# Altium schematic symbol library Connectors.SchLib: 110 symbols
Pins are listed as number, name and electrical type; pins without a type are passive.

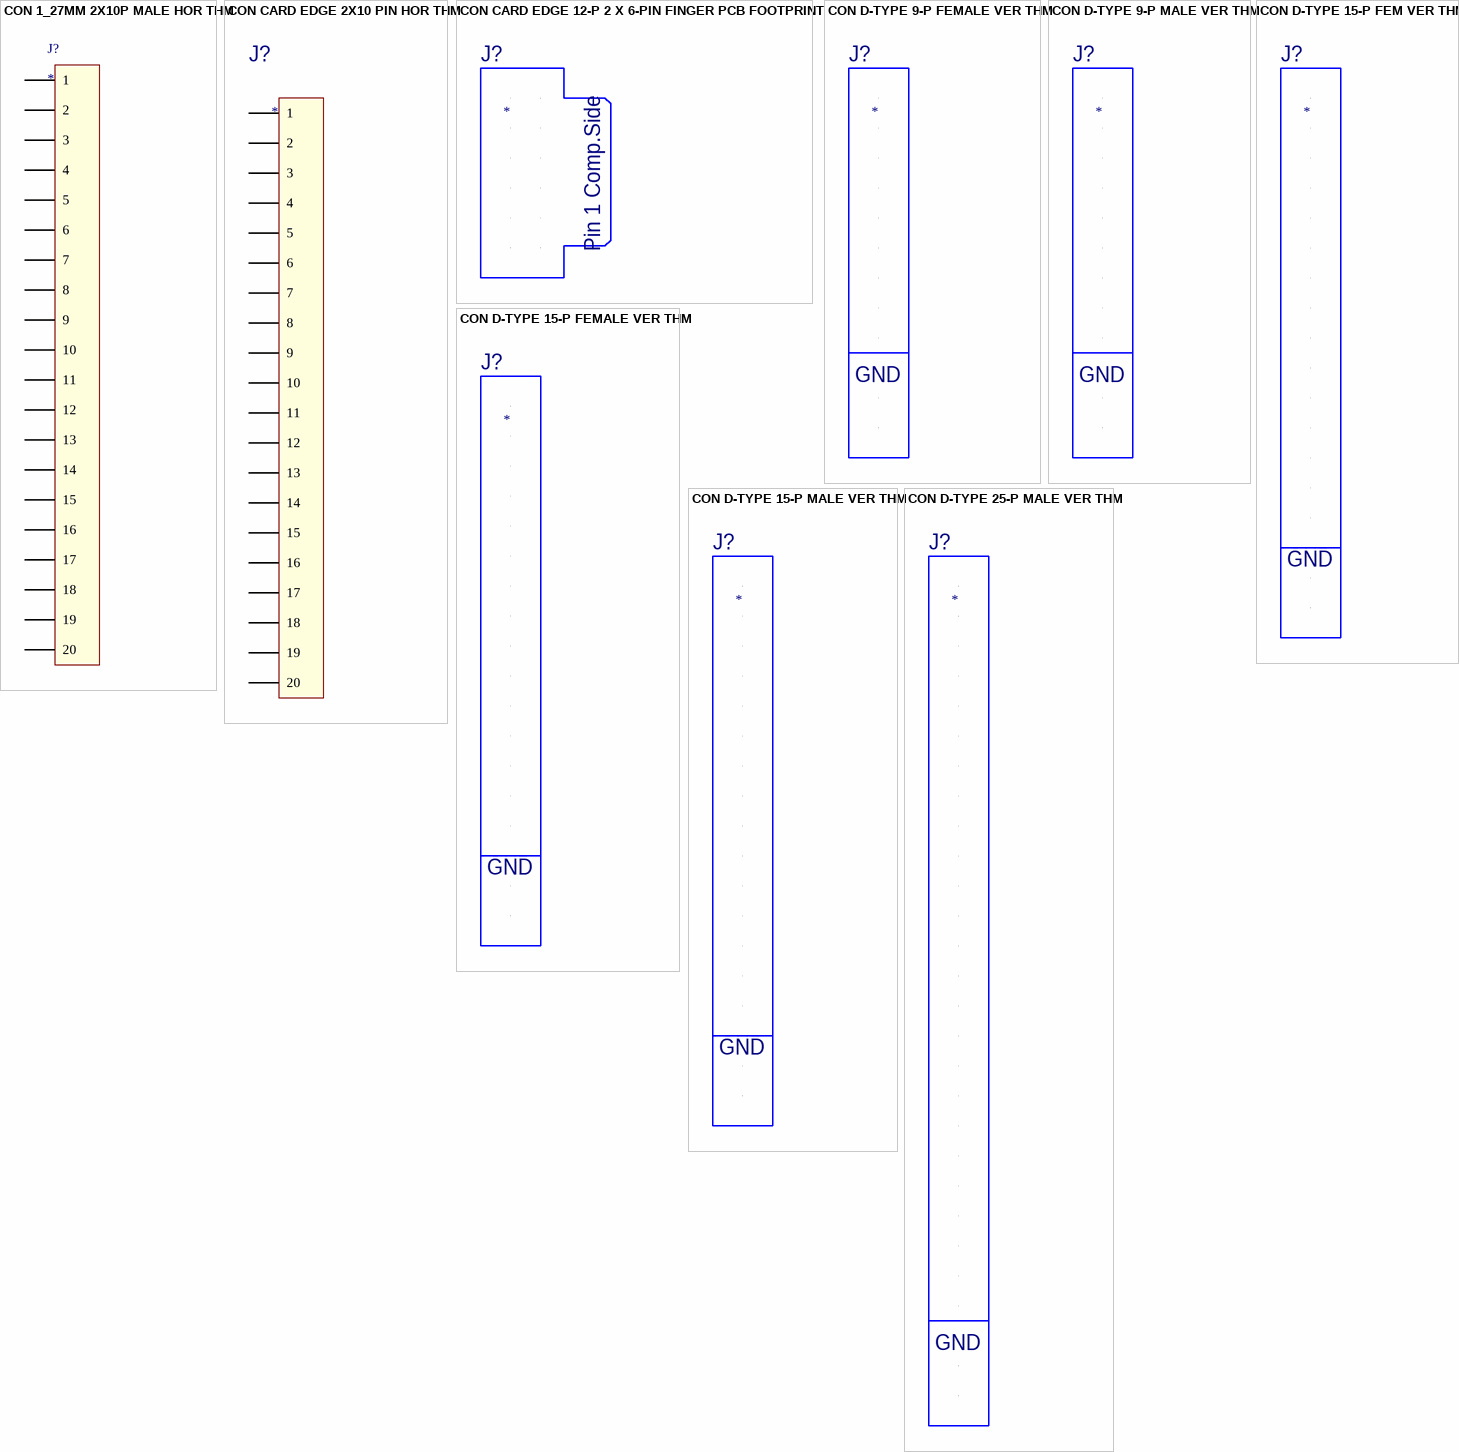
[diagram p0: symbols CON 1_27MM 2X10P MALE HOR THM to CON D-TYPE 25-P MALE VER THM]

## CON 1_27MM 2X10P MALE HOR THM
designator J?
=Description
pins: 1, 2, 3, 4, 5, 6, 7, 8, 9, 10, 11, 12, 13, 14, 15, 16, 17, 18, 19, 20

## CON CARD EDGE 2X10 PIN HOR THM
designator J?
=Description
pins: 1, 2, 3, 4, 5, 6, 7, 8, 9, 10, 11, 12, 13, 14, 15, 16, 17, 18, 19, 20

## CON CARD EDGE 12-P 2 X 6-PIN FINGER PCB FOOTPRINT
designator J?
=Description
pins: 1, 2, 3, 4, 5, 6, 7, 8, 9, 10, 11, 12
text: Pin 1 Comp.Side

## CON D-TYPE 9-P FEMALE VER THM
designator J?
=Description
pins: 1, 2, 3, 4, 5, 6, 7, 8, 9, 10, 11
text: GND

## CON D-TYPE 9-P MALE VER THM
designator J?
=Description
pins: 1, 2, 3, 4, 5, 6, 7, 8, 9, 10, 11
text: GND

## CON D-TYPE 15-P FEM VER THM
designator J?
=Description
pins: 1, 2, 3, 4, 5, 6, 7, 8, 9, 10, 11, 12, 13, 14, 15, 16, 17
text: GND

## CON D-TYPE 15-P FEMALE VER THM
designator J?
=Description
pins: 1, 2, 3, 4, 5, 6, 7, 8, 9, 10, 11, 12, 13, 14, 15, 16, 17
text: GND

## CON D-TYPE 15-P MALE VER THM
designator J?
=Description
pins: 1, 2, 3, 4, 5, 6, 7, 8, 9, 10, 11, 12, 13, 14, 15, 16, 17
text: GND

## CON D-TYPE 25-P MALE VER THM
designator J?
=Description
pins: 1, 2, 3, 4, 5, 6, 7, 8, 9, 10, 11, 12, 13, 14, 15, 16, 17, 18, 19, 20, 21, 22, 23, 24, 25, 26, 27
text: GND

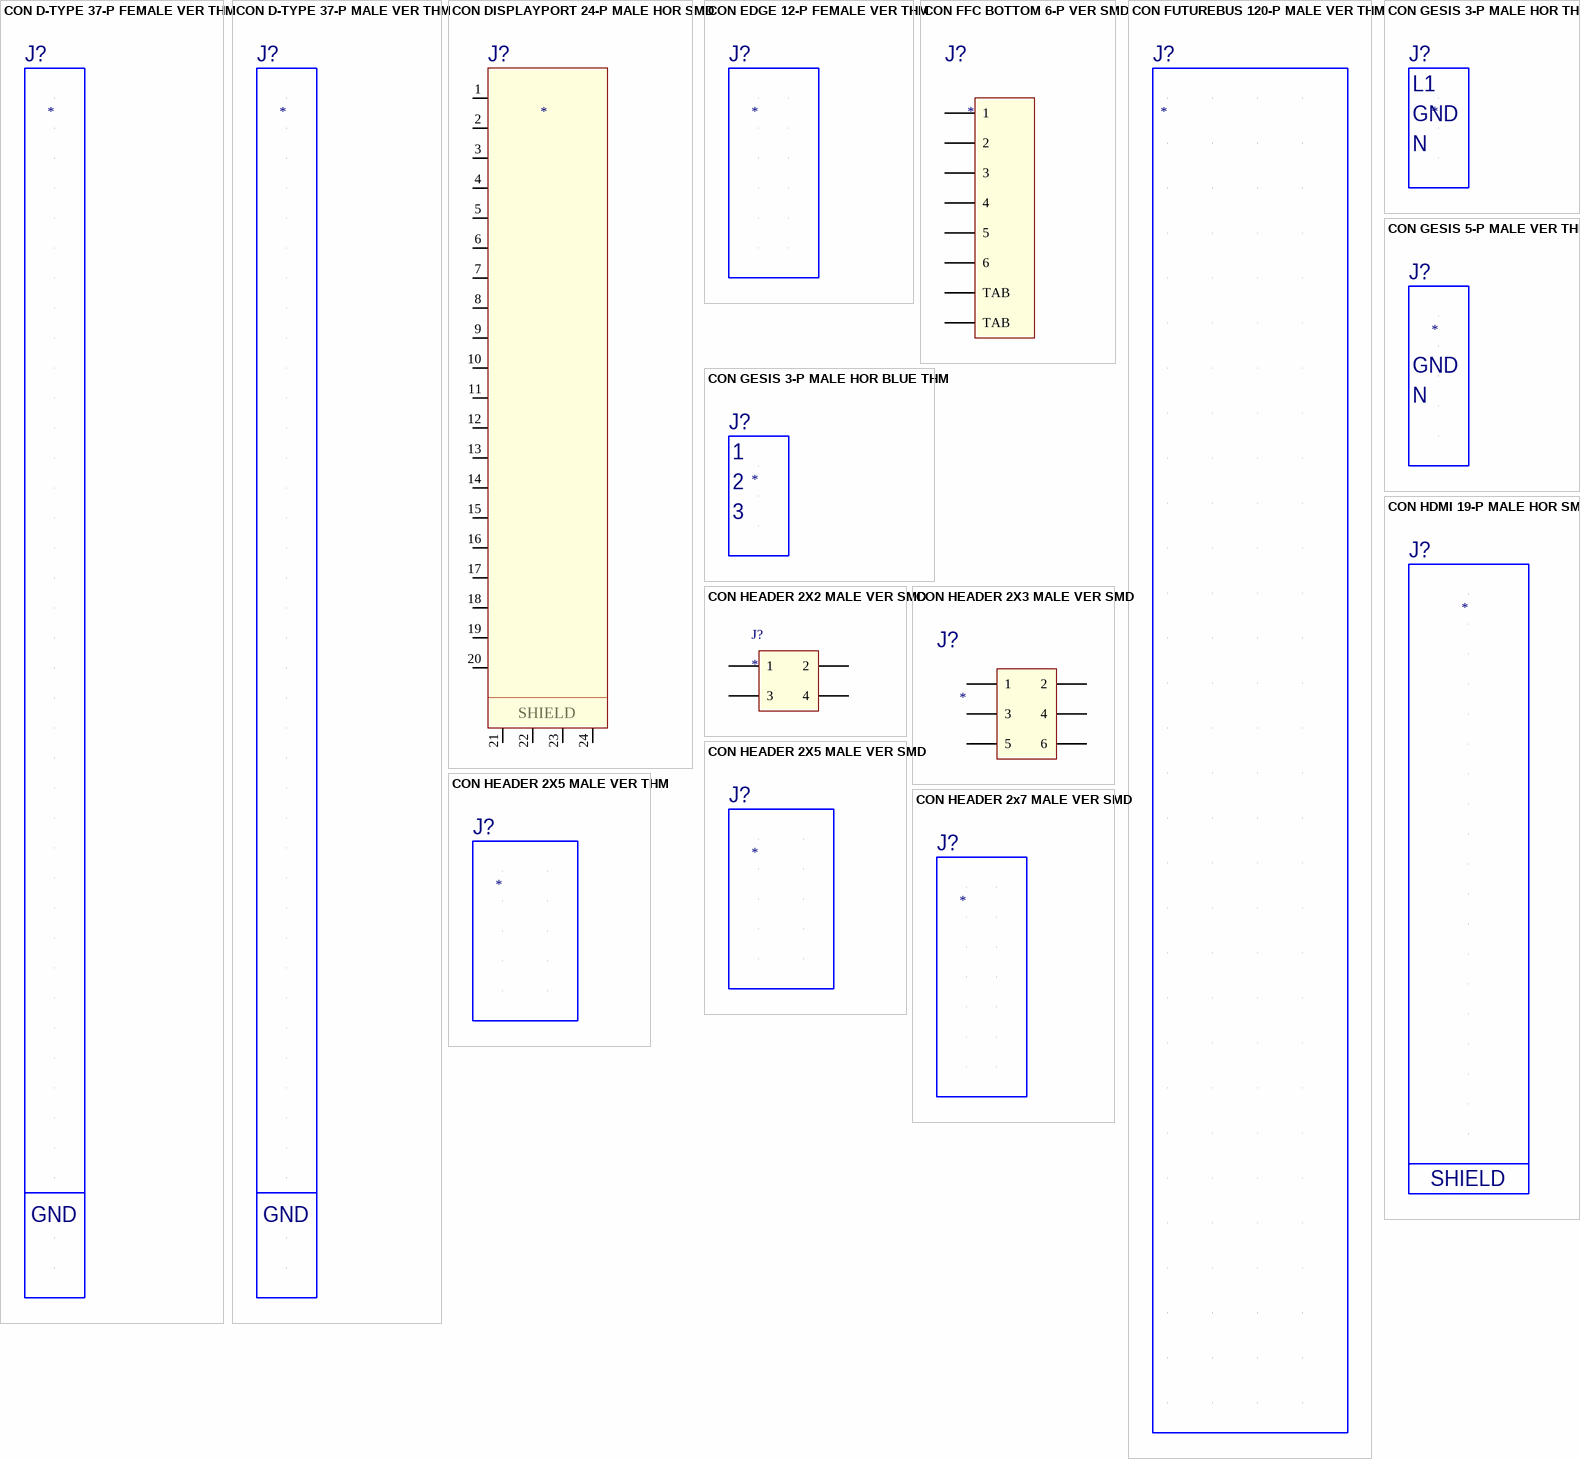
[diagram p1: symbols CON D-TYPE 37-P FEMALE VER THM to CON HEADER 2x7 MALE VER SMD]

## CON D-TYPE 37-P FEMALE VER THM
designator J?
=Description
pins: 1, 2, 3, 4, 5, 6, 7, 8, 9, 10, 11, 12, 13, 14, 15, 16, 17, 18, 19, 20, 21, 22, 23, 24, 25, 26, 27, 28, 29, 30, 31, 32, 33, 34, 35, 36, 37, 38, 39
text: GND

## CON D-TYPE 37-P MALE VER THM
designator J?
=Description
pins: 1, 2, 3, 4, 5, 6, 7, 8, 9, 10, 11, 12, 13, 14, 15, 16, 17, 18, 19, 20, 21, 22, 23, 24, 25, 26, 27, 28, 29, 30, 31, 32, 33, 34, 35, 36, 37, 38, 39
text: GND

## CON DISPLAYPORT 24-P MALE HOR SMD
designator J?
=Description
pins: 1, 2, 3, 4, 5, 6, 7, 8, 9, 10, 11, 12, 13, 14, 15, 16, 17, 18, 19, 20, 21, 22, 23, 24
text: SHIELD

## CON EDGE 12-P FEMALE VER THM
designator J?
=Description
pins: 1, 2, 3, 4, 5, 6, 7, 8, 9, 10, 11, 12

## CON FFC BOTTOM 6-P VER SMD
designator J?
=Description
pins: 1, 2, 3, 4, 5, 6, 7 TAB, 8 TAB

## CON FUTUREBUS 120-P MALE VER THM
designator J?
=Description
pins: A1, A2, A3, A4, A5, A6, A7, A8, A9, A10, A11, A12, A13, A14, A15, A16, A17, A18, A19, A20, A21, A22, A23, A24, A25, A26, A27, A28, A29, A30, B1, B2, B3, B4, B5, B6, B7, B8, B9, B10, B11, B12, B13, B14, B15, B16, B17, B18, B19, B20, B21, B22, B23, B24, B25, B26, B27, B28, B29, B30, C1, C2, C3, C4, C5, C6, C7, C8, C9, C10, C11, C12, C13, C14, C15, C16, C17, C18, C19, C20, C21, C22, C23, C24, C25, C26, C27, C28, C29, C30, D1, D2, D3, D4, D5, D6, D7, D8, D9, D10, D11, D12, D13, D14, D15, D16, D17, D18, D19, D20, D21, D22, D23, D24, D25, D26, D27, D28, D29, D30

## CON GESIS 3-P MALE HOR BLUE THM
designator J?
=Description
pins: 1, 2, 3

## CON GESIS 3-P MALE HOR THM
designator J?
=Description
pins: 1, 2, 3
text: L1; GND; N

## CON GESIS 5-P MALE VER THM
designator J?
=Description
pins: 1, 2, 3, 4, 5
text: GND; N

## CON HDMI 19-P MALE HOR SMD
designator J?
=Description
pins: 1, 2, 3, 4, 5, 6, 7, 8, 9, 10, 11, 12, 13, 14, 15, 16, 17, 18, 19, 20, 21, 22, 23
text: SHIELD

## CON HEADER 2X2 MALE VER SMD
designator J?
=Description
pins: 1, 2, 3, 4

## CON HEADER 2X3 MALE VER SMD
designator J?
=Description
pins: 1, 2, 3, 4, 5, 6

## CON HEADER 2X5 MALE VER SMD
designator J?
=Description
pins: 1, 2, 3, 4, 5, 6, 7, 8, 9, 10

## CON HEADER 2X5 MALE VER THM
designator J?
=Description
pins: 1, 2, 3, 4, 5, 6, 7, 8, 9, 10

## CON HEADER 2x7 MALE VER SMD
designator J?
=Description
pins: 1, 2, 3, 4, 5, 6, 7, 8, 9, 10, 11, 12, 13, 14

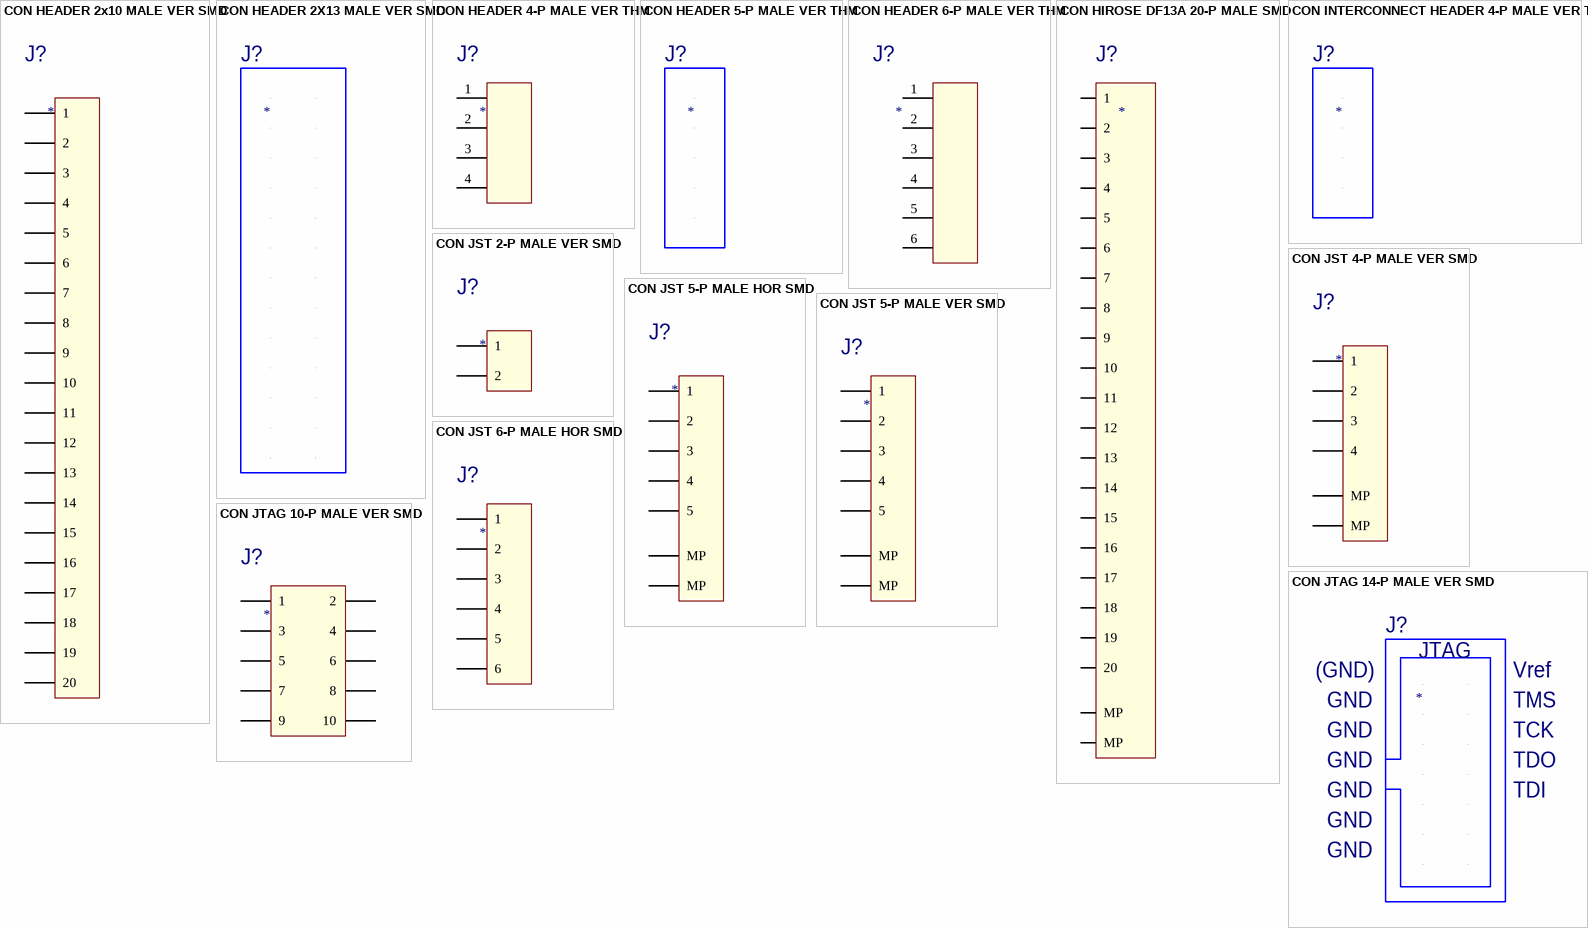
[diagram p2: symbols CON HEADER 2x10 MALE VER SMD to CON JTAG 14-P MALE VER SMD]

## CON HEADER 2x10 MALE VER SMD
designator J?
=Description
pins: 1, 2, 3, 4, 5, 6, 7, 8, 9, 10, 11, 12, 13, 14, 15, 16, 17, 18, 19, 20

## CON HEADER 2X13 MALE VER SMD
designator J?
=Description
pins: 1, 2, 3, 4, 5, 6, 7, 8, 9, 10, 11, 12, 13, 14, 15, 16, 17, 18, 19, 20, 21, 22, 23, 24, 25, 26

## CON HEADER 4-P MALE VER THM
designator J?
=Description
pins: 1, 2, 3, 4

## CON HEADER 5-P MALE VER THM
designator J?
=Description
pins: 1, 2, 3, 4, 5

## CON HEADER 6-P MALE VER THM
designator J?
=Description
pins: 1, 2, 3, 4, 5, 6

## CON HIROSE DF13A 20-P MALE SMD
designator J?
=Description
pins: 1, 2, 3, 4, 5, 6, 7, 8, 9, 10, 11, 12, 13, 14, 15, 16, 17, 18, 19, 20, 21 MP, 22 MP

## CON INTERCONNECT HEADER 4-P MALE VER THM
designator J?
=Description
pins: 1, 2, 3, 4

## CON JST 2-P MALE VER SMD
designator J?
=Description
pins: 1, 2

## CON JST 4-P MALE VER SMD
designator J?
=Description
pins: 1, 2, 3, 4, 5 MP, 6 MP

## CON JST 5-P MALE HOR SMD
designator J?
=Description
pins: 1, 2, 3, 4, 5, 6 MP, 7 MP

## CON JST 5-P MALE VER SMD
designator J?
=Description
pins: 1, 2, 3, 4, 5, 6 MP, 7 MP

## CON JST 6-P MALE HOR SMD
designator J?
=Description
pins: 1, 2, 3, 4, 5, 6

## CON JTAG 10-P MALE VER SMD
designator J?
=Description
pins: 1, 2, 3, 4, 5, 6, 7, 8, 9, 10

## CON JTAG 14-P MALE VER SMD
designator J?
=Description
pins: 1, 2, 3, 4, 5, 6, 7, 8, 9, 10, 11, 12, 13, 14
text: JTAG; (GND); Vref; GND; TMS; TCK; TDO; TDI

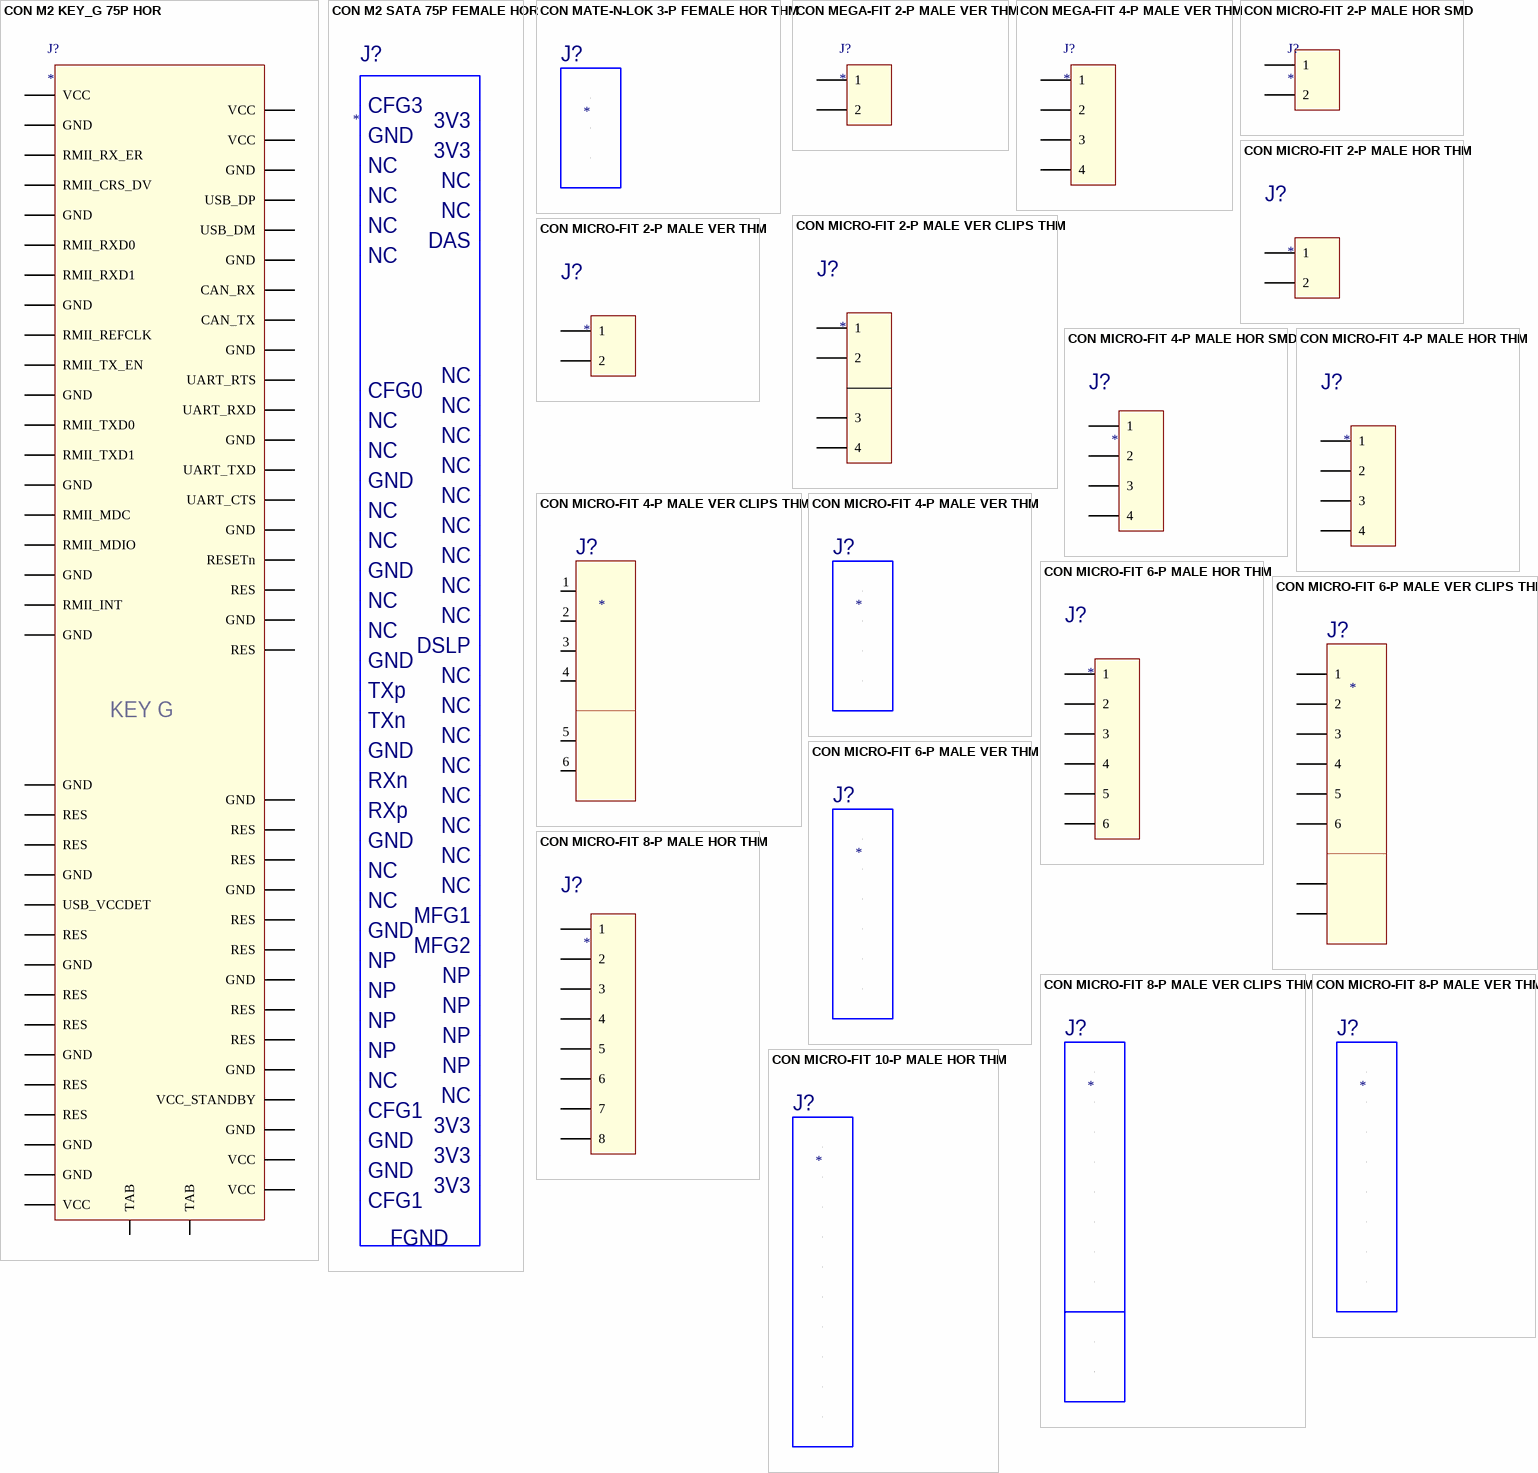
[diagram p3: symbols CON M2 KEY_G 75P HOR to CON MICRO-FIT 10-P MALE HOR THM]

## CON M2 KEY_G 75P HOR
designator J?
=Description
pins: 1 VCC, 2 VCC, 3 GND, 4 VCC, 5 RMII_RX_ER, 6 GND, 7 RMII_CRS_DV, 8 USB_DP, 9 GND, 10 USB_DM, 11 RMII_RXD0, 12 GND, 13 RMII_RXD1, 14 CAN_RX, 15 GND, 16 CAN_TX, 17 RMII_REFCLK, 18 GND, 19 RMII_TX_EN, 20 UART_RTS, 21 GND, 22 UART_RXD, 23 RMII_TXD0, 24 GND, 25 RMII_TXD1, 26 UART_TXD, 27 GND, 28 UART_CTS, 29 RMII_MDC, 30 GND, 31 RMII_MDIO, 32 RESETn, 33 GND, 34 RES, 35 RMII_INT, 36 GND, 37 GND, 38 RES, 47 GND, 48 GND, 49 RES, 50 RES, 51 RES, 52 RES, 53 GND, 54 GND, 55 USB_VCCDET, 56 RES, 57 RES, 58 RES, 59 GND, 60 GND, 61 RES, 62 RES, 63 RES, 64 RES, 65 GND, 66 GND, 67 RES, 68 VCC_STANDBY, 69 RES, 70 GND, 71 GND, 72 VCC, 73 GND, 74 VCC, 75 VCC, 76 TAB, 77 TAB
text: KEY G

## CON M2 SATA 75P FEMALE HOR
designator J?
=Description
pins: 1, 2, 3, 4, 5, 6, 7, 8, 9, 10, 11, 12, 13, 14, 15, 16, 17, 18, 19, 20, 21, 22, 23, 24, 25, 26, 27, 28, 29, 30, 31, 32, 33, 34, 35, 36, 37, 38, 39, 40, 41, 42, 43, 44, 45, 46, 47, 48, 49, 50, 51, 52, 53, 54, 55, 56, 57, 58, 59, 60, 61, 62, 63, 64, 65, 66, 67, 68, 69
text: CFG3; 3V3; GND; NC; DAS; CFG0; DSLP; TXp; TXn; RXn; RXp; MFG1; MFG2; NP; CFG1; FGND

## CON MATE-N-LOK 3-P FEMALE HOR THM
designator J?
=Description
pins: 1, 2, 3

## CON MEGA-FIT 2-P MALE VER THM
designator J?
=Description
pins: 1, 2

## CON MEGA-FIT 4-P MALE VER THM
designator J?
=Description
pins: 1, 2, 3, 4

## CON MICRO-FIT 2-P MALE HOR SMD
designator J?
=Description
pins: 1, 2

## CON MICRO-FIT 2-P MALE HOR THM
designator J?
=Description
pins: 1, 2

## CON MICRO-FIT 2-P MALE VER CLIPS THM
designator J?
=Description
pins: 1, 2, 3, 4

## CON MICRO-FIT 2-P MALE VER THM
designator J?
=Description
pins: 1, 2

## CON MICRO-FIT 4-P MALE HOR SMD
designator J?
=Description
pins: 1, 2, 3, 4

## CON MICRO-FIT 4-P MALE HOR THM
designator J?
=Description
pins: 1, 2, 3, 4

## CON MICRO-FIT 4-P MALE VER CLIPS THM
designator J?
=Description
pins: 1, 2, 3, 4, 5, 6

## CON MICRO-FIT 4-P MALE VER THM
designator J?
=Description
pins: 1, 2, 3, 4

## CON MICRO-FIT 6-P MALE HOR THM
designator J?
=Description
pins: 1, 2, 3, 4, 5, 6

## CON MICRO-FIT 6-P MALE VER CLIPS THM
designator J?
=Description
pins: 1, 2, 3, 4, 5, 6, 7, 8

## CON MICRO-FIT 6-P MALE VER THM
designator J?
=Description
pins: 1, 2, 3, 4, 5, 6

## CON MICRO-FIT 8-P MALE HOR THM
designator J?
=Description
pins: 1, 2, 3, 4, 5, 6, 7, 8

## CON MICRO-FIT 8-P MALE VER CLIPS THM
designator J?
=Description
pins: 1, 2, 3, 4, 5, 6, 7, 8, 9, 10

## CON MICRO-FIT 8-P MALE VER THM
designator J?
=Description
pins: 1, 2, 3, 4, 5, 6, 7, 8

## CON MICRO-FIT 10-P MALE HOR THM
designator J?
=Description
pins: 1, 2, 3, 4, 5, 6, 7, 8, 9, 10

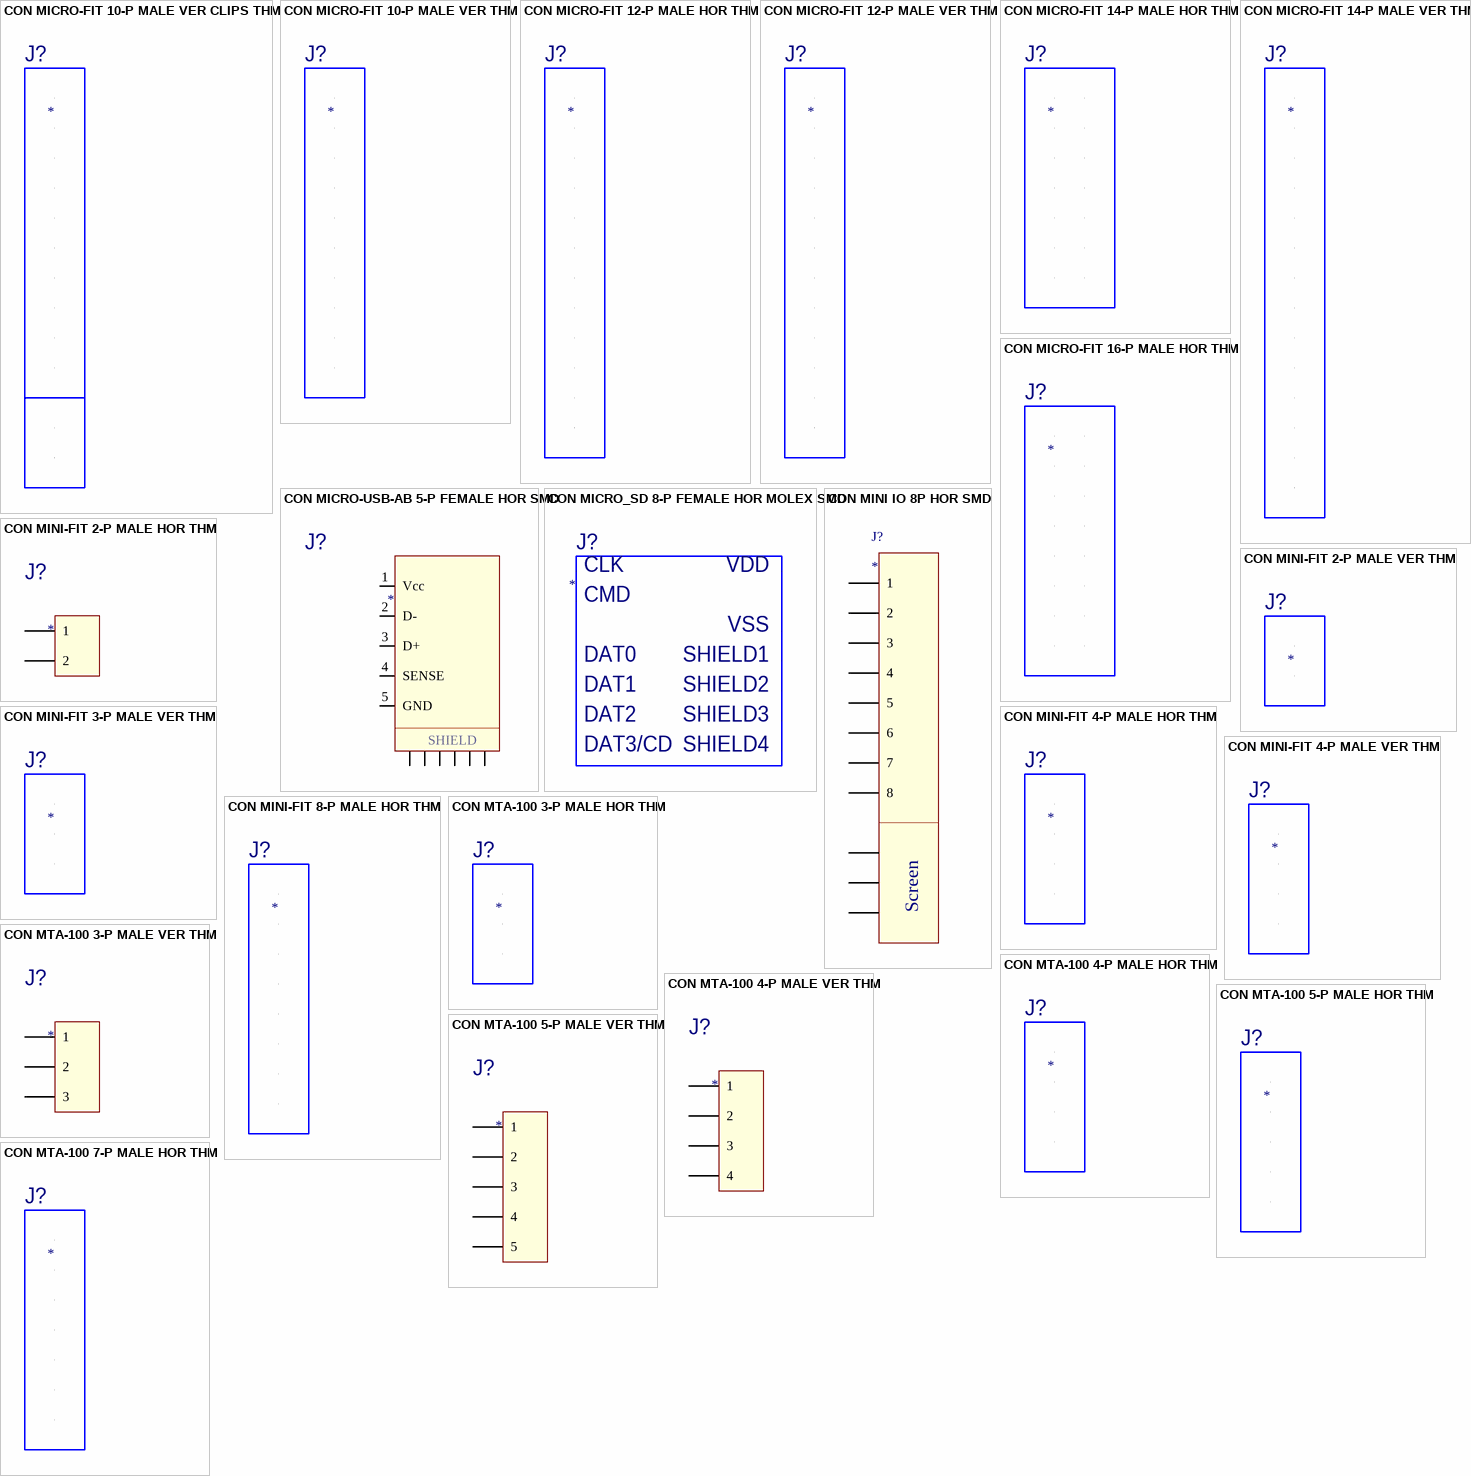
[diagram p4: symbols CON MICRO-FIT 10-P MALE VER CLIPS THM to CON MTA-100 7-P MALE HOR THM]

## CON MICRO-FIT 10-P MALE VER CLIPS THM
designator J?
=Description
pins: 1, 2, 3, 4, 5, 6, 7, 8, 9, 10, 11, 12

## CON MICRO-FIT 10-P MALE VER THM
designator J?
=Description
pins: 1, 2, 3, 4, 5, 6, 7, 8, 9, 10

## CON MICRO-FIT 12-P MALE HOR THM
designator J?
=Description
pins: 1, 2, 3, 4, 5, 6, 7, 8, 9, 10, 11, 12

## CON MICRO-FIT 12-P MALE VER THM
designator J?
=Description
pins: 1, 2, 3, 4, 5, 6, 7, 8, 9, 10, 11, 12

## CON MICRO-FIT 14-P MALE HOR THM
designator J?
=Description
pins: 1, 2, 3, 4, 5, 6, 7, 8, 9, 10, 11, 12, 13, 14

## CON MICRO-FIT 14-P MALE VER THM
designator J?
=Description
pins: 1, 2, 3, 4, 5, 6, 7, 8, 9, 10, 11, 12, 13, 14

## CON MICRO-FIT 16-P MALE HOR THM
designator J?
=Description
pins: 1, 2, 3, 4, 5, 6, 7, 8, 9, 10, 11, 12, 13, 14, 15, 16

## CON MICRO-USB-AB 5-P FEMALE HOR SMD
designator J?
=Description
pins: 1 Vcc, 2 D-, 3 D+, 4 SENSE, 5 GND, 6, 7, 8, 9, 10, 11
text: SHIELD

## CON MICRO_SD 8-P FEMALE HOR MOLEX SMD
designator J?
=Description
pins: 1, 2, 3, 4, 5, 6, 7, 8, 9, 10, 11, 12
text: CLK; VDD; CMD; VSS; DAT0; SHIELD1; DAT1; SHIELD2; DAT2; SHIELD3; DAT3/CD; SHIELD4

## CON MINI IO 8P HOR SMD
designator J?
=Description
pins: 1, 2, 3, 4, 5, 6, 7, 8, 9, 10, 11
text: Screen

## CON MINI-FIT 2-P MALE HOR THM
designator J?
=Description
pins: 1, 2

## CON MINI-FIT 2-P MALE VER THM
designator J?
=Description
pins: 1, 2

## CON MINI-FIT 3-P MALE VER THM
designator J?
=Description
pins: 1, 2, 3

## CON MINI-FIT 4-P MALE HOR THM
designator J?
=Description
pins: 1, 2, 3, 4

## CON MINI-FIT 4-P MALE VER THM
designator J?
=Description
pins: 1, 2, 3, 4

## CON MINI-FIT 8-P MALE HOR THM
designator J?
=Description
pins: 1, 2, 3, 4, 5, 6, 7, 8

## CON MTA-100 3-P MALE HOR THM
designator J?
=Description
pins: 1, 2, 3

## CON MTA-100 3-P MALE VER THM
designator J?
=Description
pins: 1, 2, 3

## CON MTA-100 4-P MALE HOR THM
designator J?
=Description
pins: 1, 2, 3, 4

## CON MTA-100 4-P MALE VER THM
designator J?
=Description
pins: 1, 2, 3, 4

## CON MTA-100 5-P MALE HOR THM
designator J?
=Description
pins: 1, 2, 3, 4, 5

## CON MTA-100 5-P MALE VER THM
designator J?
=Description
pins: 1, 2, 3, 4, 5

## CON MTA-100 7-P MALE HOR THM
designator J?
=Description
pins: 1, 2, 3, 4, 5, 6, 7

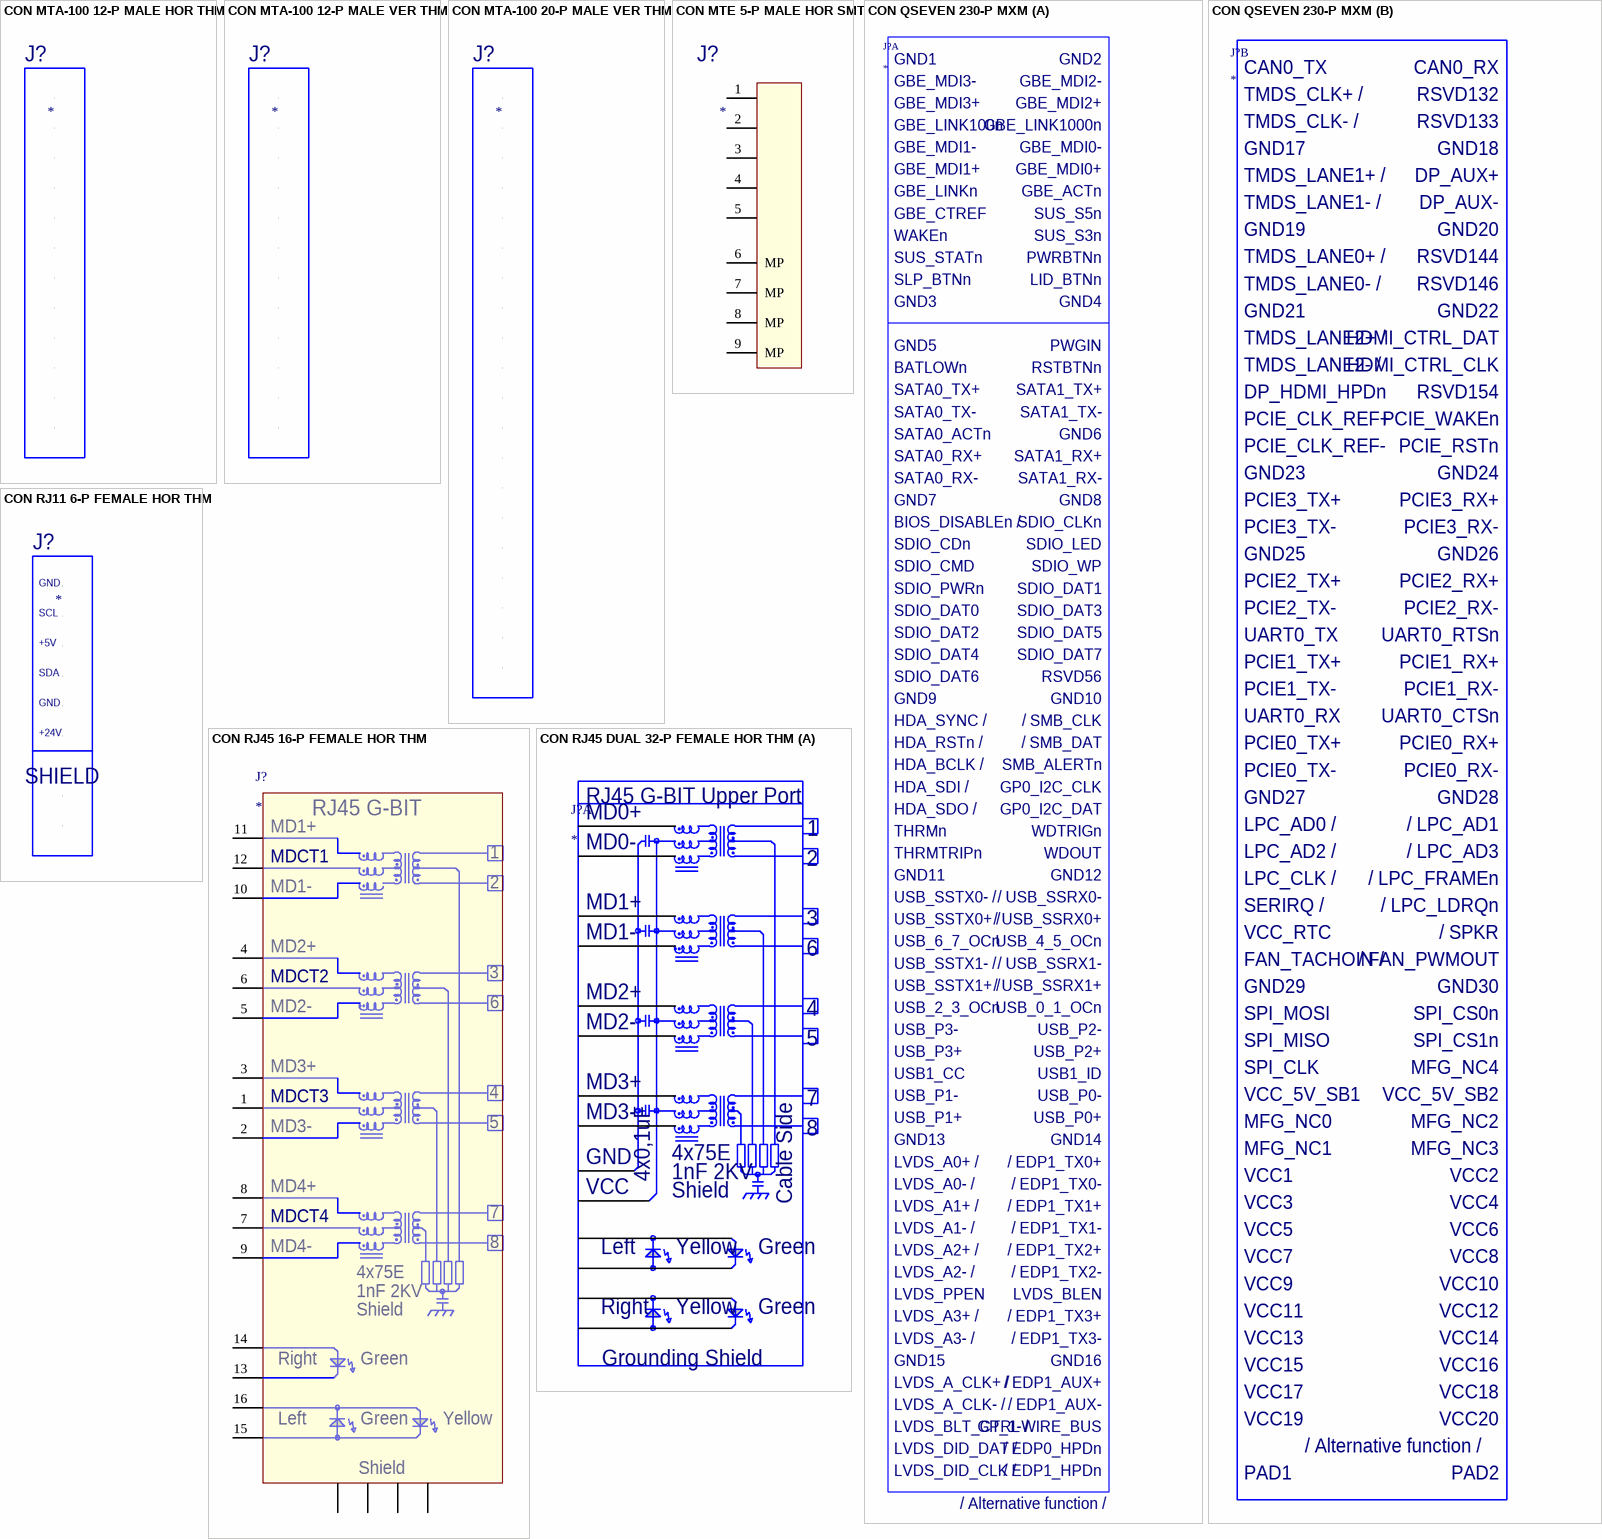
[diagram p5: symbols CON MTA-100 12-P MALE HOR THM to CON RJ45 DUAL 32-P FEMALE HOR THM]

## CON MTA-100 12-P MALE HOR THM
designator J?
=Description
pins: 1, 2, 3, 4, 5, 6, 7, 8, 9, 10, 11, 12

## CON MTA-100 12-P MALE VER THM
designator J?
=Description
pins: 1, 2, 3, 4, 5, 6, 7, 8, 9, 10, 11, 12

## CON MTA-100 20-P MALE VER THM
designator J?
=Description
pins: 1, 2, 3, 4, 5, 6, 7, 8, 9, 10, 11, 12, 13, 14, 15, 16, 17, 18, 19, 20

## CON MTE 5-P MALE HOR SMT
designator J?
=Description
pins: 1, 2, 3, 4, 5, 6 MP, 7 MP, 8 MP, 9 MP

## CON QSEVEN 230-P MXM
designator J?
=Description
part A pins: 1, 2, 3, 4, 5, 6, 7, 8, 9, 10, 11, 12, 13, 14, 15, 16, 17, 18, 19, 20, 21, 22, 23, 24, 25, 26, 27, 28, 29, 30, 31, 32, 33, 34, 35, 36, 37, 38, 39, 40, 41, 42, 43, 44, 45, 46, 47, 48, 49, 50, 51, 52, 53, 54, 55, 56, 57, 58, 59, 60, 61, 62, 63, 64, 65, 66, 67, 68, 69, 70, 71, 72, 73, 74, 75, 76, 77, 78, 79, 80, 81, 82, 83, 84, 85, 86, 87, 88, 89, 90, 91, 92, 93, 94, 95, 96, 97, 98, 99, 100, 101, 102, 103, 104, 105, 106, 107, 108, 109, 110, 111, 112, 113, 114, 115, 116, 117, 118, 119, 120, 121, 122, 123, 124, 125, 126, 127, 128
part B pins: 129, 130, 131, 132, 133, 134, 135, 136, 137, 138, 139, 140, 141, 142, 143, 144, 145, 146, 147, 148, 149, 150, 151, 152, 153, 154, 155, 156, 157, 158, 159, 160, 161, 162, 163, 164, 165, 166, 167, 168, 169, 170, 171, 172, 173, 174, 175, 176, 177, 178, 179, 180, 181, 182, 183, 184, 185, 186, 187, 188, 189, 190, 191, 192, 193, 194, 195, 196, 197, 198, 199, 200, 201, 202, 203, 204, 205, 206, 207, 208, 209, 210, 211, 212, 213, 214, 215, 216, 217, 218, 219, 220, 221, 222, 223, 224, 225, 226, 227, 228, 229, 230, 231, 232
part A text: GND1; GND2; GBE_MDI3-; GBE_MDI2-; GBE_MDI3+; GBE_MDI2+; GBE_LINK100n; GBE_LINK1000n; GBE_MDI1-; GBE_MDI0-; GBE_MDI1+; GBE_MDI0+; GBE_LINKn; GBE_ACTn; GBE_CTREF; SUS_S5n; WAKEn; SUS_S3n; SUS_STATn; PWRBTNn; SLP_BTNn; LID_BTNn; GND3; GND4; GND5; PWGIN; BATLOWn; RSTBTNn; SATA0_TX+; SATA1_TX+; SATA0_TX-; SATA1_TX-; SATA0_ACTn; GND6; SATA0_RX+; SATA1_RX+; SATA0_RX-; SATA1_RX-; GND7; GND8; BIOS_DISABLEn /; SDIO_CLKn; SDIO_CDn; SDIO_LED; SDIO_CMD; SDIO_WP; SDIO_PWRn; SDIO_DAT1; SDIO_DAT0; SDIO_DAT3; SDIO_DAT2; SDIO_DAT5; SDIO_DAT4; SDIO_DAT7; SDIO_DAT6; RSVD56; GND9; GND10; HDA_SYNC /; / SMB_CLK; HDA_RSTn /; / SMB_DAT; HDA_BCLK /; SMB_ALERTn; HDA_SDI /; GP0_I2C_CLK; HDA_SDO /; GP0_I2C_DAT; THRMn; WDTRIGn; THRMTRIPn; WDOUT; GND11; GND12; USB_SSTX0- /; / USB_SSRX0-; USB_SSTX0+ /; / USB_SSRX0+; USB_6_7_OCn; USB_4_5_OCn; USB_SSTX1- /; / USB_SSRX1-; USB_SSTX1+ /; / USB_SSRX1+; USB_2_3_OCn; USB_0_1_OCn; USB_P3-; USB_P2-; USB_P3+; USB_P2+; USB1_CC; USB1_ID; USB_P1-; USB_P0-; USB_P1+; USB_P0+; GND13; GND14; LVDS_A0+ /; / EDP1_TX0+; LVDS_A0- /; / EDP1_TX0-; LVDS_A1+ /; / EDP1_TX1+; LVDS_A1- /; / EDP1_TX1-; LVDS_A2+ /; / EDP1_TX2+; LVDS_A2- /; / EDP1_TX2-; LVDS_PPEN; LVDS_BLEN; LVDS_A3+ /; / EDP1_TX3+; LVDS_A3- /; / EDP1_TX3-; GND15; GND16; LVDS_A_CLK+ /; / EDP1_AUX+; LVDS_A_CLK- /; / EDP1_AUX-; LVDS_BLT_CTRL /; GP_1-WIRE_BUS; LVDS_DID_DAT /; / EDP0_HPDn; LVDS_DID_CLK /; / EDP1_HPDn; / Alternative function /
part B text: CAN0_TX; CAN0_RX; TMDS_CLK+ /; RSVD132; TMDS_CLK- /; RSVD133; GND17; GND18; TMDS_LANE1+ /; DP_AUX+; TMDS_LANE1- /; DP_AUX-; GND19; GND20; TMDS_LANE0+ /; RSVD144; TMDS_LANE0- /; RSVD146; GND21; GND22; TMDS_LANE2+ /; HDMI_CTRL_DAT; TMDS_LANE2- /; HDMI_CTRL_CLK; DP_HDMI_HPDn; RSVD154; PCIE_CLK_REF+; PCIE_WAKEn; PCIE_CLK_REF-; PCIE_RSTn; GND23; GND24; PCIE3_TX+; PCIE3_RX+; PCIE3_TX-; PCIE3_RX-; GND25; GND26; PCIE2_TX+; PCIE2_RX+; PCIE2_TX-; PCIE2_RX-; UART0_TX; UART0_RTSn; PCIE1_TX+; PCIE1_RX+; PCIE1_TX-; PCIE1_RX-; UART0_RX; UART0_CTSn; PCIE0_TX+; PCIE0_RX+; PCIE0_TX-; PCIE0_RX-; GND27; GND28; LPC_AD0 /; / LPC_AD1; LPC_AD2 /; / LPC_AD3; LPC_CLK /; / LPC_FRAMEn; SERIRQ /; / LPC_LDRQn; VCC_RTC; / SPKR; FAN_TACHOIN /; / FAN_PWMOUT; GND29; GND30; SPI_MOSI; SPI_CS0n; SPI_MISO; SPI_CS1n; SPI_CLK; MFG_NC4; VCC_5V_SB1; VCC_5V_SB2; MFG_NC0; MFG_NC2; MFG_NC1; MFG_NC3; VCC1; VCC2; VCC3; VCC4; VCC5; VCC6; VCC7; VCC8; VCC9; VCC10; VCC11; VCC12; VCC13; VCC14; VCC15; VCC16; VCC17; VCC18; VCC19; VCC20; / Alternative function /; PAD1; PAD2

## CON RJ11 6-P FEMALE HOR THM
designator J?
=Description
pins: 1, 2, 3, 4, 5, 6, 9, 10
text: GND; SCL; +5V; SDA; +24V; SHIELD

## CON RJ45 16-P FEMALE HOR THM
designator J?
=Description
pins: 1, 2, 3, 4, 5, 6, 7, 8, 9, 10, 11, 12, 13, 14, 15, 16, 17, 18, 19, 20
text: RJ45 G-BIT; MD1+; MDCT1; MD1-; MD2+; MDCT2; MD2-; MD3+; MDCT3; MD3-; MD4+; MDCT4; MD4-; 4x75E; 1nF 2KV; Shield; Right; Green; Left; Yellow

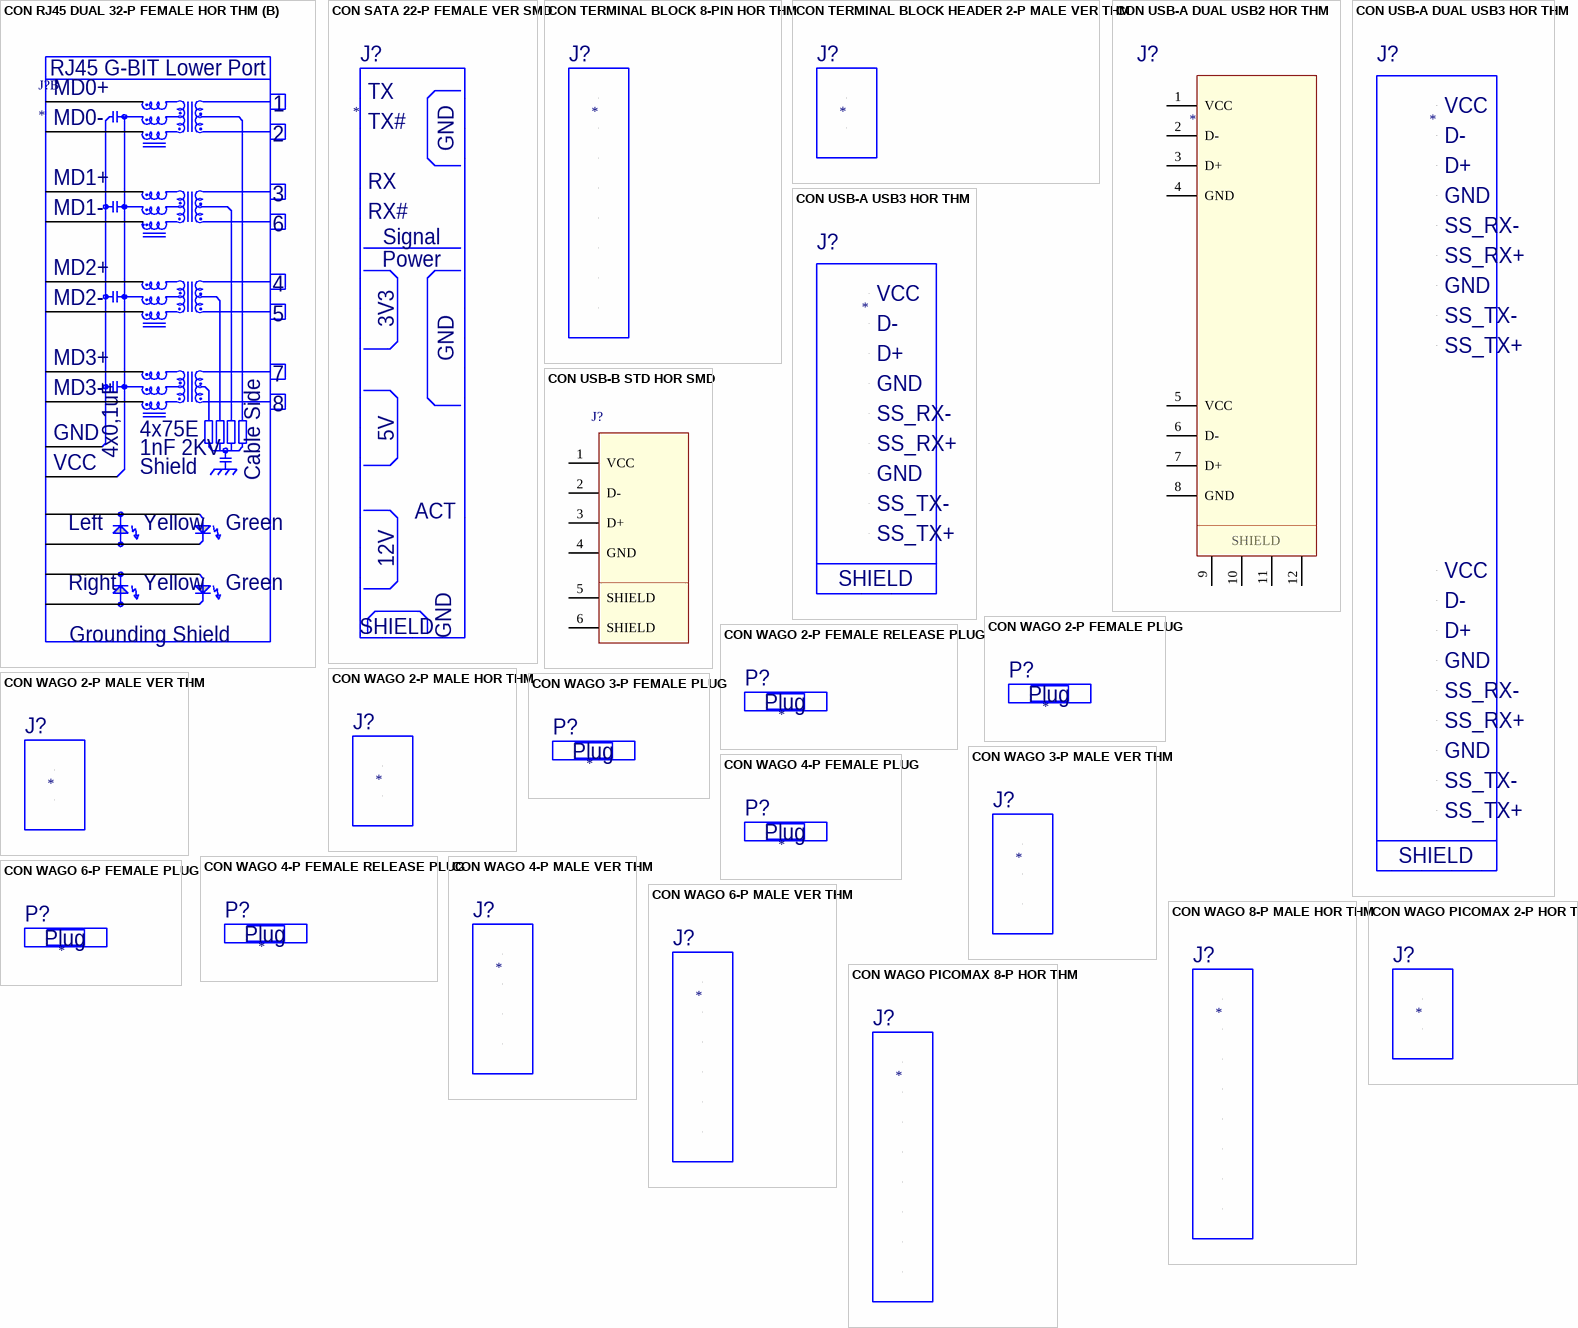
[diagram p6: symbols CON RJ45 DUAL 32-P FEMALE HOR THM to CON WAGO PICOMAX 8-P HOR THM]

## CON RJ45 DUAL 32-P FEMALE HOR THM
designator J?
=Description
part A pins: A1, A2, A3, A4, A5, A6, A7, A8, A9, A10, A11, A12, A13, A14, A15, A16
part B pins: B1, B2, B3, B4, B5, B6, B7, B8, B9, B10, B11, B12, B13, B14, B15, B16
part A text: RJ45 G-BIT Upper Port; MD0+; 1; MD0-; 2; MD1+; 3; MD1-; 6; MD2+; 4; MD2-; 5; MD3+; 7; MD3-; 8; GND; 4x75E; 4x0,1uF; 1nF 2KV; VCC; Shield; Cable Side; Left; Yellow; Green; Right; Grounding Shield
part B text: RJ45 G-BIT Lower Port; MD0+; 1; MD0-; 2; MD1+; 3; MD1-; 6; MD2+; 4; MD2-; 5; MD3+; 7; MD3-; 8; GND; 4x75E; 4x0,1uF; 1nF 2KV; VCC; Shield; Cable Side; Left; Yellow; Green; Right; Grounding Shield

## CON SATA 22-P FEMALE VER SMD
designator J?
=Description
pins: M1, M2, M3, P1, P2, P3, P4, P5, P6, P7, P8, P9, P10, P11, P12, P13, P14, P15, S1, S2, S3, S4, S5, S6, S7
text: TX; GND; TX#; RX; RX#; Signal; Power; 3V3; 5V; ACT; 12V; SHIELD

## CON TERMINAL BLOCK 8-PIN HOR THM
designator J?
=Description
pins: 1, 2, 3, 4, 5, 6, 7, 8

## CON TERMINAL BLOCK HEADER 2-P MALE VER THM
designator J?
=Description
pins: 1, 2

## CON USB-A DUAL USB2 HOR THM
designator J?
=Description
pins: 1 VCC, 2 D-, 3 D+, 4 GND, 5 VCC, 6 D-, 7 D+, 8 GND, 9, 10, 11, 12
text: SHIELD

## CON USB-A DUAL USB3 HOR THM
designator J?
=Description
pins: 1, 2, 3, 4, 5, 6, 7, 8, 9, 10, 11, 12, 13, 14, 15, 16, 17, 18, 19, 20, 21, 22
text: VCC; D-; D+; GND; SS_RX-; SS_RX+; SS_TX-; SS_TX+; SHIELD

## CON USB-A USB3 HOR THM
designator J?
=Description
pins: 1, 2, 3, 4, 5, 6, 7, 8, 9, 10, 11
text: VCC; D-; D+; GND; SS_RX-; SS_RX+; SS_TX-; SS_TX+; SHIELD

## CON USB-B STD HOR SMD
designator J?  (value not drawn)
=Description
pins: 1 VCC, 2 D-, 3 D+, 4 GND, 5 SHIELD, 6 SHIELD

## CON WAGO 2-P FEMALE PLUG
designator P?
=Description
text: Plug

## CON WAGO 2-P FEMALE RELEASE PLUG
designator P?
=Description
text: Plug

## CON WAGO 2-P MALE HOR THM
designator J?
=Description
pins: 1, 2

## CON WAGO 2-P MALE VER THM
designator J?
=Description
pins: 1, 2

## CON WAGO 3-P FEMALE PLUG
designator P?
=Description
text: Plug

## CON WAGO 3-P MALE VER THM
designator J?
=Description
pins: 1, 2, 3

## CON WAGO 4-P FEMALE PLUG
designator P?
=Description
text: Plug

## CON WAGO 4-P FEMALE RELEASE PLUG
designator P?
=Description
text: Plug

## CON WAGO 4-P MALE VER THM
designator J?
=Description
pins: 1, 2, 3, 4

## CON WAGO 6-P FEMALE PLUG
designator P?
=Description
text: Plug

## CON WAGO 6-P MALE VER THM
designator J?
=Description
pins: 1, 2, 3, 4, 5, 6

## CON WAGO 8-P MALE HOR THM
designator J?
=Description
pins: 1, 2, 3, 4, 5, 6, 7, 8

## CON WAGO PICOMAX 2-P HOR THM
designator J?
=Description
pins: 1, 2

## CON WAGO PICOMAX 8-P HOR THM
designator J?
=Description
pins: 1, 2, 3, 4, 5, 6, 7, 8